# Altium footprint library Crystals.PcbLib: 3 footprints
Each footprint in its own frame and in the unit in brackets; x right, y up, seen from the top. Pads: shape width x height; smd on the part's side, far side on the other; paste and mask are expansions set on the pad; w line width, h text height; cw(c..) or ccw(c..) is an arc to the next point about the centre after c.
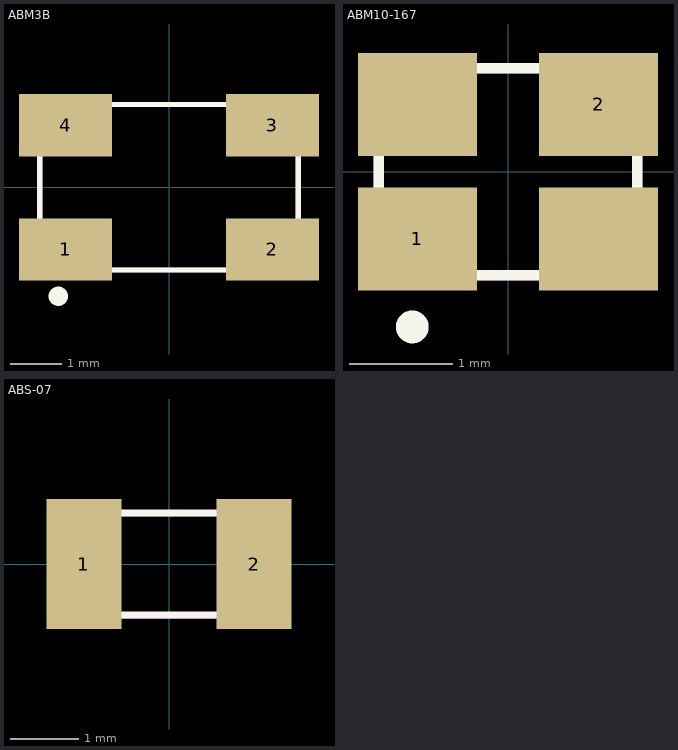
[diagram p0: the footprints below, top view; thin cyan lines are the x and y axes]

## ABM3B [mm]
pads (4):
  rect 1.8x1.2 smd: 1(-2,-1.2) 2(2,-1.2) 3(2,1.2) 4(-2,1.2)
Top Overlay:
  circle w0.254: c-2.141,-2.106 r0.059
  lines w0.1: 2.5,-1.6 -2.5,-1.6 -2.5,1.6 2.5,1.6 2.5,-1.575
Mechanical 2:
  lines w0.1: -2.5,-1.6 2.5,-1.6 2.5,1.6 -2.5,1.6 -2.5,-1.6
3D body "ABM3B.STEP": height 1, standoff 0, extent -2.5,-1.6 2.5,1.6

## ABM10-167 [mm]
pads (4):
  rect 1.15x1 smd: 1(-0.875,-0.65) 2(0.875,0.65) ""(-0.875,0.65) ""(0.875,-0.65)
Top Overlay:
  circle w0.2: c-0.925,-1.5 r0.059
  lines w0.1: -1.25,-1 -1.25,1 1.25,1 1.25,-1 -1.25,-1
Mechanical 2:
  lines w0.1: -1.25,-1 -1.25,1 1.25,1 1.25,-1 -1.25,-1
3D body "ABM10.step": height 0.7, standoff -0.01, extent -1.3,-1.05 1.3,1.05

## ABS-07 [mm]
pads (2):
  rect 1.1x1.9 smd: 1(-1.25,0) 2(1.25,0)
Top Overlay:
  lines w0.1: 1.6,-0.747 1.6,0.747 ; -1.578,-0.75 1.6,-0.75 1.6,0.75 -1.572,0.75 -1.578,0.744 -1.578,-0.75
Mechanical 2:
  lines w0.1: -1.578,-0.756 1.622,-0.756 ; -1.578,-0.75 -1.578,0.744 1.622,0.744
3D body "ABS07.STEP": height 0.91, standoff 0, extent -1.61,-0.76 1.61,0.76